# EAGLE library part MCP6002 (library adam - ics)
Dual General Op Amp 1.8V min supply 1MHz (6V/us)
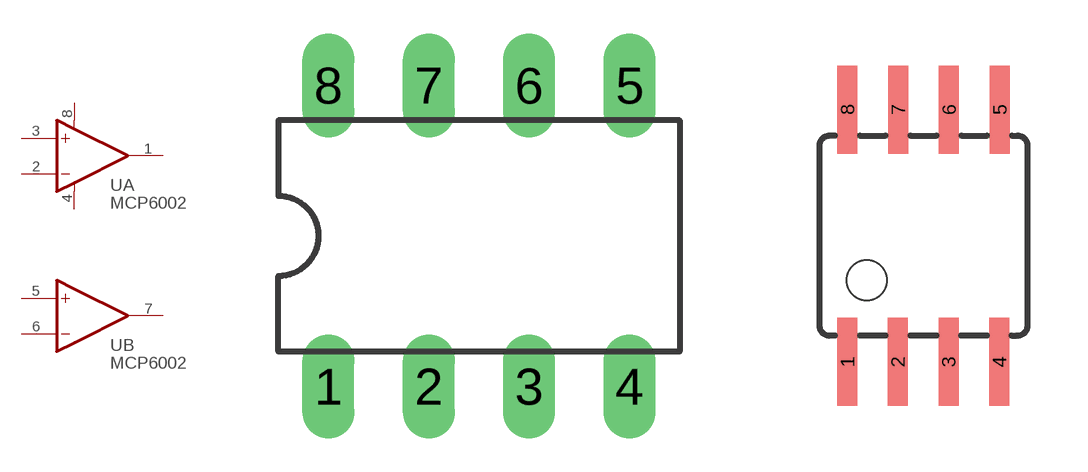
[diagram p3: symbol with the pads of DIP-8; footprints DIP-8, SOIC8]

Designator prefix -; gates A=OPAMP-SUPP B=OPAMP-NOSUPP

## MCP6002DIP  [DIP-8]
1  A:OUT  out
2  A:-IN  in
3  A:+IN  in
4  A:V-  pwr
5  B:+IN  in
6  B:-IN  in
7  B:OUT  out
8  A:V+  pwr

## MCP6002SMT  [SOIC8]
Pads as for DIP-8

## Footprint DIP-8 (pad centres in mm)
drill 0.813 long: 1 -3.81,-3.81; 2 -1.27,-3.81; 3 1.27,-3.81; 4 3.81,-3.81; 5 3.81,3.81; 6 1.27,3.81; 7 -1.27,3.81; 8 -3.81,3.81

## Footprint SOIC8 (pad centres in mm)
Wide Plastic Gull Wing Small Outline Package
smd 0.5 x 2.2: 1 -1.905,-3.154; 2 -0.645,-3.154; 3 0.625,-3.154; 4 1.895,-3.154; 5 1.905,3.154; 6 0.635,3.154; 7 -0.635,3.154; 8 -1.905,3.154